# Altium footprint library BB-HEADER-DUAL-P01-P14.PcbLib: 1 footprints
Each footprint in its own frame and in the unit in brackets; x right, y up, seen from the top. Pads: shape width x height; smd on the part's side, far side on the other; paste and mask are expansions set on the pad; w line width, h text height; cw(c..) or ccw(c..) is an arc to the next point about the centre after c.
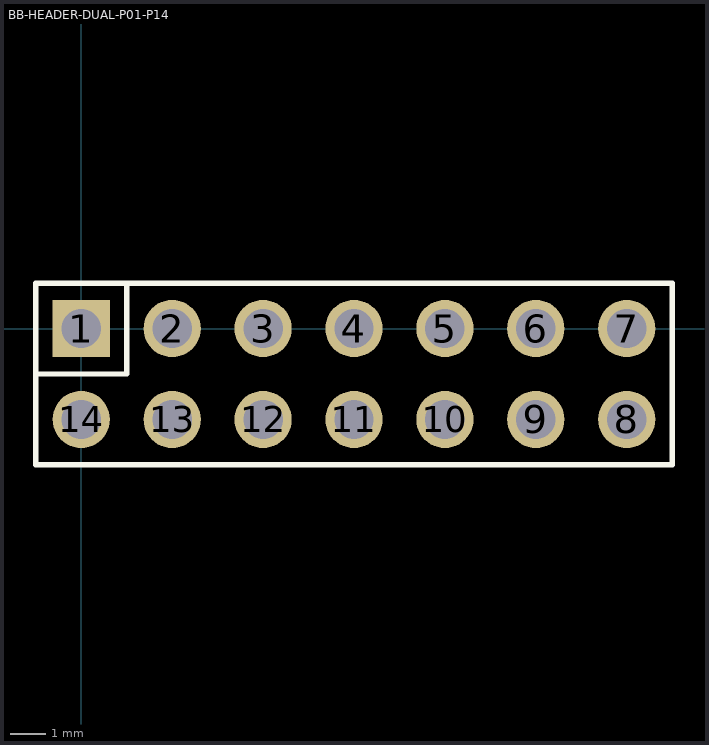
[diagram p0: the footprint, top view; thin cyan lines are the x and y axes]

## BB-HEADER-DUAL-P01-P14 [mm] "Dual Row BB Header, Vertical, Male, 0.1\"2.54mm,P01-P14"
height 11.6
pads (14):
  rect 1.6x1.6 hole 1.1: 1(0,0)
  round 1.6 hole 1.1: 2(2.54,0) 3(5.08,0) 4(7.62,0) 5(10.16,0) 6(12.7,0) 7(15.24,0)
  round 1.6 hole 1.1 unplated: 8(15.24,-2.54) 9(12.7,-2.54) 10(10.16,-2.54) 11(7.62,-2.54) 12(5.08,-2.54) 13(2.54,-2.54) 14(0,-2.54)
Top Overlay:
  lines w0.152: -1.27,-1.27 1.27,-1.27 1.27,1.27 ; -1.27,-3.81 16.51,-3.81 16.51,1.27 -1.27,1.27 -1.27,-3.81
Mechanical 13:
  lines w0.1: -1.27,-3.81 -1.27,1.27 16.51,1.27 16.51,-3.81 -1.27,-3.81
Mechanical 15:
  lines w0.05: -1.27,-3.81 -1.27,1.27 16.51,1.27 16.51,-3.81 -1.27,-3.81
3D body: height 8.54, standoff -3, extent -1.27,-3.81 16.51,-1.27
3D body: height 8.54, standoff -3, extent -1.27,-1.27 16.51,1.27